# EAGLE library part SN65HVD232 (library transceiver)
CAN TRANSCEIVER
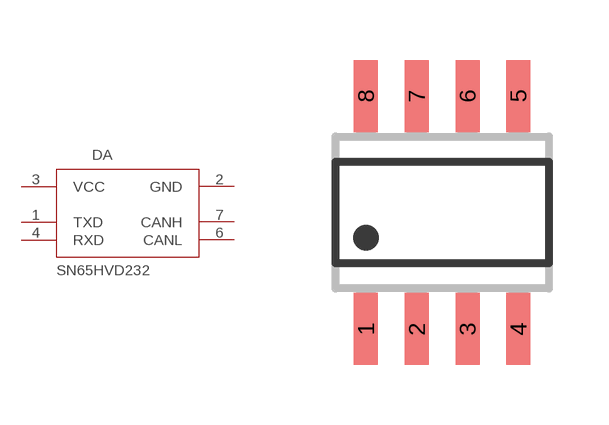
[diagram p0: symbol with the pads of SO08; footprint SO08]

Designator prefix DA

## SN65HVD232  [SO08]
1  TXD  in
2  GND  pwr
3  VCC  pwr
4  RXD  out
6  CANL
7  CANH

## Footprint SO08 (pad centres in mm)
SMALL OUTLINE INTEGRATED CIRCUIT body 3.9 mm/JEDEC MS-012AA
smd 0.6 x 1.8: 1 -1.905,-2.917; 2 -0.635,-2.917; 3 0.635,-2.917; 4 1.905,-2.917; 5 1.905,2.917; 6 0.635,2.917; 7 -0.635,2.917; 8 -1.905,2.917